# EAGLE library part TPS552892RYQR (library TPS552892RYQR)
Check availability <https://pricing.snapeda.com/parts/TPS552892RYQR/Texas%20Instruments/view-part?ref=eda>
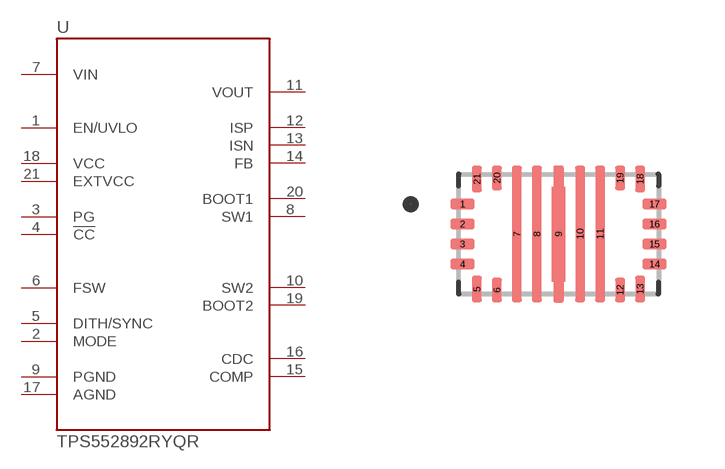
[diagram p0: symbol with the pads of CONV_TPS552892RYQR; footprint CONV_TPS552892RYQR]

Designator prefix U

## TPS552892RYQR (AVAILABILITY: In Stock; CHECK_PRICES: https://www.snapeda.com/parts/TPS552892RYQR/Texas+Instruments/view-part/?ref=eda; DESCRIPTION: 36-V 8-A fully-integrated buck-boost converter; MF: Texas Instruments; MP: TPS552892RYQR; PACKAGE: None; PRICE: None; SNAPEDA_LINK: https://www.snapeda.com/parts/TPS552892RYQR/Texas+Instruments/view-part/?ref=snap)  [CONV_TPS552892RYQR]
1  EN/UVLO  in
2  MODE  in
3  PG  out
4  !CC  out
5  DITH/SYNC  in
6  FSW  in
7  VIN  pwr
8  SW1  pwr
9  PGND  pwr
10  SW2  pwr
11  VOUT  pwr
12  ISP  in
13  ISN  in
14  FB  in
15  COMP  out
16  CDC  out
17  AGND  pwr
18  VCC  pwr
19  BOOT2  out
20  BOOT1  out
21  EXTVCC  pwr

## Footprint CONV_TPS552892RYQR (pad centres in mm)
smd 0.6 x 0.25: 1 -2.4,0.75; 2 -2.4,0.25; 3 -2.4,-0.25; 4 -2.4,-0.75; 14 2.4,-0.75; 15 2.4,-0.25; 16 2.4,0.25; 17 2.4,0.75
smd 0.25 x 0.65: 5 -2.04,-1.375; 13 2.04,-1.375; 18 2.04,1.375; 21 -2.04,1.375
smd 0.25 x 0.6: 6 -1.54,-1.4; 12 1.54,-1.4; 19 1.54,1.4; 20 -1.54,1.4
smd 0.25 x 3.4: 7 -1.04,0; 8 -0.54,0; 10 0.54,0; 11 1.04,0
smd 0.25 x 1.2: 9 0,0